# Altium footprint library FK7B0M1-VBT6模块-封装库.PcbLib: 3 footprints
Each footprint in its own frame and in the unit in brackets; x right, y up, seen from the top. Pads: shape width x height; smd on the part's side, far side on the other; paste and mask are expansions set on the pad; w line width, h text height; cw(c..) or ccw(c..) is an arc to the next point about the centre after c.
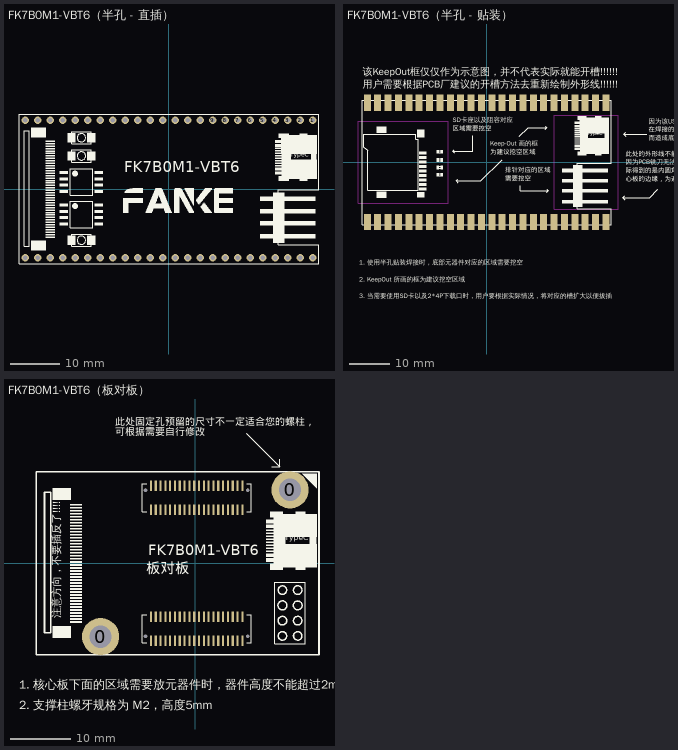
[diagram p0: the footprints below, top view; thin cyan lines are the x and y axes]

## FK7B0M1-VBT6（半孔 - 直插） [mm]
pads (48):
  round 1.5 hole 0.9: 1(29.21,13.97) 2(26.67,13.97) 3(24.13,13.97) 4(21.59,13.97) 5(19.05,13.97) 6(16.51,13.97) 7(13.97,13.97) 8(11.43,13.97) 9(8.89,13.97) 10(6.35,13.97) 11(3.81,13.97) 12(1.27,13.97) 13(-1.27,13.97) 14(-3.81,13.97) 15(-6.35,13.97) 16(-8.89,13.97) 17(-11.43,13.97) 18(-13.97,13.97) 19(-16.51,13.97) 20(-19.05,13.97) 21(-21.59,13.97) 22(-24.13,13.97) 23(-26.67,13.97) 24(-29.21,13.97) 25(29.21,-13.97) 26(26.67,-13.97) 27(24.13,-13.97) 28(21.59,-13.97) 29(19.05,-13.97) 30(16.51,-13.97) 31(13.97,-13.97) 32(11.43,-13.97) 33(8.89,-13.97) 34(6.35,-13.97) 35(3.81,-13.97) 36(1.27,-13.97) 37(-1.27,-13.97) 38(-3.81,-13.97) 39(-6.35,-13.97) 40(-8.89,-13.97) 41(-11.43,-13.97) 42(-13.97,-13.97) 43(-16.51,-13.97) 44(-19.05,-13.97) 45(-21.59,-13.97) 46(-24.13,-13.97) 47(-26.67,-13.97) 48(-29.21,-13.97)
Top Overlay:
  drawing of 913 lines, arcs and shapes, not listed
  text "FK7B0M1-VBT6" at -9.068,2.553 h3.81
  text "TypeC" at 24.676,6.223 h1.52
3D body "FK750M3-VBT6-V1.0排针.step": height 14.36, standoff 0.26, extent -30.48,-15.24 30.48,15.24

## FK7B0M1-VBT6（半孔 - 贴装） [mm]
pads (48):
  rect 1.7x4 smd: 1(29.21,14.605) 2(26.67,14.605) 3(24.13,14.605) 4(21.59,14.605) 5(19.05,14.605) 6(16.51,14.605) 7(13.97,14.605) 8(11.43,14.605) 9(8.89,14.605) 10(6.35,14.605) 11(3.81,14.605) 12(1.27,14.605) 13(-1.27,14.605) 14(-3.81,14.605) 15(-6.35,14.605) 16(-8.89,14.605) 17(-11.43,14.605) 18(-13.97,14.605) 19(-16.51,14.605) 20(-19.05,14.605) 21(-21.59,14.605) 22(-24.13,14.605) 23(-26.67,14.605) 24(-29.21,14.605) 25(29.21,-14.605) 26(26.67,-14.605) 27(24.13,-14.605) 28(21.59,-14.605) 29(19.05,-14.605) 30(16.51,-14.605) 31(13.97,-14.605) 32(11.43,-14.605) 33(8.89,-14.605) 34(6.35,-14.605) 35(3.81,-14.605) 36(1.27,-14.605) 37(-1.27,-14.605) 38(-3.81,-14.605) 39(-6.35,-14.605) 40(-8.89,-14.605) 41(-11.43,-14.605) 42(-13.97,-14.605) 43(-16.51,-14.605) 44(-19.05,-14.605) 45(-21.59,-14.605) 46(-24.13,-14.605) 47(-26.67,-14.605) 48(-29.21,-14.605)
Top Overlay:
  rectangle: 22.809,2.032 30.023,5.956
  rectangle: 22.797,7.087 30.023,10.973
  rectangle: 22.809,5.766 24.803,7.391
  rectangle: 22.263,10.338 24.397,11.328
  rectangle: 22.263,1.651 24.397,2.68
  rectangle: 26.518,1.651 28.143,2.781
  rectangle: 28.804,5.639 29.934,7.391
  rectangle: 21.539,4.585 22.835,4.889
  rectangle: 21.539,5.08 22.835,5.385
  rectangle: 21.539,5.588 22.835,5.893
  rectangle: 21.539,6.083 22.835,6.388
  rectangle: 21.539,6.591 22.835,6.896
  rectangle: 21.539,7.087 22.835,7.391
  rectangle: 21.539,7.582 22.835,7.887
  rectangle: 21.539,8.09 22.835,8.395
  rectangle: 21.539,2.972 22.885,3.594
  rectangle: 21.539,3.772 22.885,4.394
  rectangle: 21.539,8.572 22.885,9.195
  rectangle: 21.539,9.36 22.936,9.995
  rectangle: 26.518,10.342 28.143,11.328
  rectangle: 21.133,-10.954 23.419,-0.667
  rectangle: 18.466,-2.445 29.769,-1.556
  rectangle: 18.466,-4.985 29.769,-4.096
  rectangle: 18.466,-7.398 29.769,-6.509
  rectangle: 18.466,-10.065 29.769,-9.176
  region: -10.668,1.003 -11.303,1.003 -11.303,0.114 -10.668,0.114
  region: -10.668,-2.616 -11.303,-2.616 -11.303,-3.505 -10.668,-3.505
  region: -10.655,-0.826 -11.29,-0.826 -11.29,-1.714 -10.655,-1.714
  region: -10.668,3.048 -11.303,3.048 -11.303,2.159 -10.668,2.159
  region: -24.46,-7.163 -26.949,-7.163 -26.949,-8.738 -24.46,-8.738
  region: -24.46,8.738 -26.949,8.738 -26.949,7.15 -24.46,7.15
  region: -11.684,1.003 -12.319,1.003 -12.319,0.114 -11.684,0.114
  region: -11.684,-2.616 -12.319,-2.616 -12.319,-3.505 -11.684,-3.505
  region: -11.671,-0.826 -12.306,-0.826 -12.306,-1.714 -11.671,-1.714
  region: -11.684,3.048 -12.319,3.048 -12.319,2.159 -11.684,2.159
  region: -15.202,-7.302 -17.005,-7.302 -17.005,-8.611 -15.202,-8.611
  region: -14.694,-5.109 -16.51,-5.109 -16.51,-5.808 -14.694,-5.808
  region: -14.694,-6.209 -16.51,-6.209 -16.51,-6.908 -14.694,-6.908
  region: -14.694,-4.009 -16.51,-4.009 -16.51,-4.708 -14.694,-4.708
  region: -14.694,-1.809 -16.51,-1.809 -16.51,-2.508 -14.694,-2.508
  region: -14.694,0.391 -16.51,0.391 -16.51,-0.308 -14.694,-0.308
  region: -14.694,2.591 -16.51,2.591 -16.51,1.892 -14.694,1.892
  region: -14.694,-0.709 -16.51,-0.709 -16.51,-1.408 -14.694,-1.408
  region: -14.694,-2.909 -16.51,-2.909 -16.51,-3.608 -14.694,-3.608
  region: -15.215,7.988 -17.005,7.988 -17.005,6.096 -15.215,6.096
  region: -14.694,1.491 -16.51,1.491 -16.51,0.792 -14.694,0.792
  lines w0.102: -11.611,-3.284 -11.383,-3.284 ; -11.611,-2.776 -11.383,-2.776 ; -11.611,0.335 -11.383,0.335 ; -11.611,0.843 -11.383,0.843 ; -11.611,2.38 -11.383,2.38 ; -11.611,2.888 -11.383,2.888 ; -11.598,-1.494 -11.37,-1.494 ; -11.598,-0.986 -11.37,-0.986
  lines w0.127: -7.874,2.286 -8.255,2.667 ; -7.874,3.048 -8.255,2.667 ; -3.429,6.477 -3.429,2.667 -8.255,2.667 ; 8.255,-5.715 8.255,-6.985 15.113,-6.985 ; 14.732,-7.366 15.113,-6.985 ; 14.732,-6.604 15.113,-6.985
  lines w0.152: -7.112,-4.953 -7.493,-4.572 ; -7.112,-4.191 -7.493,-4.572 ; 3.81,0.635 -1.397,-4.572 -7.493,-4.572 ; 8.001,6.35 10.16,8.509 14.732,8.509 ; 14.351,8.128 14.732,8.509 ; 14.351,8.89 14.732,8.509 ; 33.598,6.858 34.11,7.37 ; 33.782,-9.144 33.294,-8.656 33.294,-8.616 ; 33.782,-8.128 33.294,-8.616 ; 34.11,6.354 33.606,6.858 39.243,6.858 ; 41.963,-6.608 39.955,-8.616 33.274,-8.616 33.294,-8.616 ; -30.48,-15.24 -30.48,15.24 30.48,15.24 30.48,-0.182 22.216,-0.182 22.216,-11.358 30.48,-11.358 30.48,-15.24 -30.48,-15.24 ; -30.48,-15.24 -30.48,-15.24 ; -30.125,3.647 -29.058,2.91 -29.058,-6.869 -16.688,-6.869 -16.688,-6.412 -16.688,5.069 -16.688,5.704 -17.323,5.704 -17.323,6.847 -17.704,6.847 -30.125,6.847 -30.125,3.647 ; 30.55,6.731 30.558,6.731 30.55,6.731
  text "SD卡座以及阻容对应 / 区域需要挖空" at -8.255,7.239 h2.03
  text "TypeC" at 24.676,6.223 h1.52
  text "排针对应的区域 / 需要挖空" at 4.572,-4.953 h2.03
  text "Keep-Out 画的框 / 为建议挖空区域" at 0.889,1.524 h2.03
  text "该KeepOut框仅仅作为示意图，并不代表实际就能开槽!!!!!! / 用户需要根据PCB厂建议的开槽方法去重新绘制外形线!!!!!!" at -30.353,17.629 h3.05
  text "1. 使用半孔贴装焊接时，底部元器件对应的区域需要挖空 /  / 2. KeepOut 所画的框为建议挖空区域 /  / 3. 当需要使用SD卡以及2*4P下载口时，用户要根据实际情况，将对应的槽扩大以便拔插" at -31.242,-33.742 h2.03
  text "此处的外形线不能贴着核心板的边线， / 因为PCB铣刀无法加工出内直角，实 / 际得到的是内圆角，加上排针临近核 / 心板的边缘，为避免干涉，需要当拉宽" at 34.089,-5.084 h2.03
  text "因为该USB端子的固定引脚是直插的， / 在焊接的时候，可能会因为锡渗入底部 / 而造成底部不平整，所以建议挖空" at 39.677,4.949 h2.03
Keep-Out Layer:
  lines w0.152: -31.496,-10.033 -31.496,10.033 -9.398,10.033 -9.398,-10.033 -31.496,-10.033
  lines w0.203: 16.51,-11.43 16.51,11.557 32.258,11.557 32.258,-11.43 16.51,-11.43
3D body "FK750M3-VBT6-V1.0.step": height 3.86, standoff -2.64, extent -30.48,-15.24 30.48,15.24

## FK7B0M1-VBT6（板对板） [mm]
pads (86):
  round 6.2 hole 3.7: 0(-15.75,-12.2) 0(15.75,12.2)
  round 0.5 hole 0.65: 0(-8.278,-12.141) 0(-8.278,12.142) 0(8.722,-12.141) 0(8.722,12.142)
  rect 0.35x1.8 smd: 1(-7.38,12.89) 2(-7.38,8.89) 3(-6.58,12.89) 4(-6.58,8.89) 5(-5.78,12.89) 6(-5.78,8.89) 7(-4.98,12.89) 8(-4.98,8.89) 9(-4.18,12.89) 10(-4.18,8.89) 11(-3.38,12.89) 12(-3.38,8.89) 13(-2.58,12.89) 14(-2.58,8.89) 15(-1.78,12.89) 16(-1.78,8.89) 17(-0.98,12.89) 18(-0.98,8.89) 19(-0.18,12.89) 20(-0.18,8.89) 21(0.62,12.89) 22(0.62,8.89) 23(1.42,12.89) 24(1.42,8.89) 25(2.22,12.89) 26(2.22,8.89) 27(3.02,12.89) 28(3.02,8.89) 29(3.82,12.89) 30(3.82,8.89) 31(4.62,12.89) 32(4.62,8.89) 33(5.42,12.89) 34(5.42,8.89) 35(6.22,12.89) 36(6.22,8.89) 37(7.02,12.89) 38(7.02,8.89) 39(7.82,12.89) 40(7.82,8.89) 41(7.82,-12.89) 42(7.82,-8.89) 43(7.02,-12.89) 44(7.02,-8.89) 45(6.22,-12.89) 46(6.22,-8.89) 47(5.42,-12.89) 48(5.42,-8.89) 49(4.62,-12.89) 50(4.62,-8.89) 51(3.82,-12.89) 52(3.82,-8.89) 53(3.02,-12.89) 54(3.02,-8.89) 55(2.22,-12.89) 56(2.22,-8.89) 57(1.42,-12.89) 58(1.42,-8.89) 59(0.62,-12.89) 60(0.62,-8.89) 61(-0.18,-12.89) 62(-0.18,-8.89) 63(-0.98,-12.89) 64(-0.98,-8.89) 65(-1.78,-12.89) 66(-1.78,-8.89) 67(-2.58,-12.89) 68(-2.58,-8.89) 69(-3.38,-12.89) 70(-3.38,-8.89) 71(-4.18,-12.89) 72(-4.18,-8.89) 73(-4.98,-12.89) 74(-4.98,-8.89) 75(-5.78,-12.89) 76(-5.78,-8.89) 77(-6.58,-12.89) 78(-6.58,-8.89) 79(-7.38,-12.89) 80(-7.38,-8.89)
Top Overlay:
  circle w0.254: c14.48,-4.464 r0.705
  circle w0.254: c17.02,-4.464 r0.717
  circle w0.254: c14.48,-7.004 r0.748
  circle w0.254: c17.02,-7.004 r0.73
  circle w0.254: c14.48,-9.544 r0.718
  circle w0.254: c17.02,-9.544 r0.718
  circle w0.254: c14.48,-12.084 r0.705
  circle w0.254: c17.02,-12.084 r0.702
  rectangle: 11.708,6.607 13.105,7.242
  rectangle: 11.708,5.82 13.054,6.442
  rectangle: 11.708,1.019 13.054,1.641
  rectangle: 11.708,0.219 13.054,0.841
  rectangle: 11.708,5.337 13.003,5.642
  rectangle: 11.708,4.829 13.003,5.134
  rectangle: 11.708,4.334 13.003,4.638
  rectangle: 11.708,3.838 13.003,4.143
  rectangle: 11.708,3.33 13.003,3.635
  rectangle: 11.708,2.835 13.003,3.14
  rectangle: 11.708,2.327 13.003,2.632
  rectangle: 11.708,1.832 13.003,2.137
  rectangle: 12.965,4.334 20.191,8.22
  rectangle: 12.978,-0.721 20.191,3.203
  rectangle: 12.978,3.013 14.972,4.638
  rectangle: 18.972,2.886 20.103,4.638
  rectangle: 16.686,-1.102 18.312,0.028
  rectangle: 12.432,-1.102 14.565,-0.073
  rectangle: 16.686,7.589 18.312,8.575
  rectangle: 12.432,7.585 14.565,8.575
  region: -20.708,12.484 -23.705,12.484 -23.705,10.478 -20.708,10.478
  region: -20.708,-10.452 -23.718,-10.452 -23.718,-12.459 -20.708,-12.459
  region: -18.801,9.886 -20.808,9.886 -20.808,9.581 -18.801,9.581
  region: -18.801,9.386 -20.808,9.386 -20.808,9.081 -18.801,9.081
  region: -18.801,8.886 -20.808,8.886 -20.808,8.581 -18.801,8.581
  region: -18.801,8.386 -20.808,8.386 -20.808,8.081 -18.801,8.081
  region: -18.801,7.886 -20.808,7.886 -20.808,7.581 -18.801,7.581
  region: -18.801,7.386 -20.808,7.386 -20.808,7.081 -18.801,7.081
  region: -18.801,6.886 -20.808,6.886 -20.808,6.581 -18.801,6.581
  region: -18.801,6.386 -20.808,6.386 -20.808,6.081 -18.801,6.081
  region: -18.801,5.886 -20.808,5.886 -20.808,5.581 -18.801,5.581
  region: -18.801,5.386 -20.808,5.386 -20.808,5.081 -18.801,5.081
  region: -18.801,4.886 -20.808,4.886 -20.808,4.581 -18.801,4.581
  region: -18.801,4.386 -20.808,4.386 -20.808,4.081 -18.801,4.081
  region: -18.801,3.886 -20.808,3.886 -20.808,3.581 -18.801,3.581
  region: -18.801,3.386 -20.808,3.386 -20.808,3.081 -18.801,3.081
  region: -18.801,2.886 -20.808,2.886 -20.808,2.581 -18.801,2.581
  region: -18.801,2.386 -20.808,2.386 -20.808,2.081 -18.801,2.081
  region: -18.801,1.886 -20.808,1.886 -20.808,1.581 -18.801,1.581
  region: -18.801,1.386 -20.808,1.386 -20.808,1.081 -18.801,1.081
  region: -18.801,0.886 -20.808,0.886 -20.808,0.581 -18.801,0.581
  region: -18.801,0.386 -20.808,0.386 -20.808,0.081 -18.801,0.081
  region: -18.801,-0.114 -20.808,-0.114 -20.808,-0.419 -18.801,-0.419
  region: -18.801,-0.614 -20.808,-0.614 -20.808,-0.919 -18.801,-0.919
  region: -18.801,-1.114 -20.808,-1.114 -20.808,-1.419 -18.801,-1.419
  region: -18.801,-1.614 -20.808,-1.614 -20.808,-1.919 -18.801,-1.919
  region: -18.801,-2.114 -20.808,-2.114 -20.808,-2.419 -18.801,-2.419
  region: -18.801,-2.614 -20.808,-2.614 -20.808,-2.919 -18.801,-2.919
  region: -18.801,-3.114 -20.808,-3.114 -20.808,-3.419 -18.801,-3.419
  region: -18.801,-3.614 -20.808,-3.614 -20.808,-3.919 -18.801,-3.919
  region: -18.801,-4.114 -20.808,-4.114 -20.808,-4.419 -18.801,-4.419
  region: -18.801,-4.614 -20.808,-4.614 -20.808,-4.919 -18.801,-4.919
  region: -18.801,-5.114 -20.808,-5.114 -20.808,-5.419 -18.801,-5.419
  region: -18.801,-5.614 -20.808,-5.614 -20.808,-5.919 -18.801,-5.919
  region: -18.801,-6.114 -20.808,-6.114 -20.808,-6.419 -18.801,-6.419
  region: -18.801,-6.614 -20.808,-6.614 -20.808,-6.919 -18.801,-6.919
  region: -18.801,-7.114 -20.808,-7.114 -20.808,-7.419 -18.801,-7.419
  region: -18.801,-7.614 -20.808,-7.614 -20.808,-7.919 -18.801,-7.919
  region: -18.801,-8.114 -20.808,-8.114 -20.808,-8.419 -18.801,-8.419
  region: -18.801,-8.614 -20.808,-8.614 -20.808,-8.919 -18.801,-8.919
  region: -18.801,-9.114 -20.808,-9.114 -20.808,-9.419 -18.801,-9.419
  region: -18.801,-9.614 -20.808,-9.614 -20.808,-9.919 -18.801,-9.919
  region: 20.2,14.917 20.2,12.465 17.748,14.917
  lines w0.152: 8.483,21.579 14.008,16.055 ; 12.738,16.055 14.008,16.055 ; 14.008,17.325 14.008,16.055
  lines w0.2: 13.21,-13.354 13.21,-3.194 18.29,-3.194 18.29,-13.354 13.21,-13.354
  lines w0.203: -8.07,-13.192 -8.832,-13.192 -8.832,-8.588 -8.07,-8.588 ; -8.07,8.588 -8.832,8.588 -8.832,13.192 -8.07,13.192 ; 8.51,-13.192 9.272,-13.192 9.272,-8.588 8.51,-8.588 ; 8.51,8.588 9.272,8.588 9.272,13.192 8.51,13.192 ; 14.742,-0.588 16.52,-0.588 ; 14.742,8.048 16.52,8.048 ; 18.552,-0.595 20.08,-0.595 20.08,8.055 18.552,8.055
  lines w0.254: -26.43,-15.24 20.56,-15.24 20.56,15.24 -25.871,15.24 -26.43,15.24 -26.43,-15.24 ; -25.078,-11.585 -25.078,11.815 -24.062,11.815 -24.062,-11.585 -25.078,-11.585 ; -25.072,-11.572 -25.072,11.828 -24.056,11.828 -24.056,-11.572 -25.072,-11.572
  text "可根据需要自行修改" at -13.321,20.872 h2.03
  text "此处固定孔预留的尺寸不一定适合您的螺柱，" at -13.323,22.522 h2.03
  text "1. 核心板下面的区域需要放元器件时，器件高度不能超过2mm" at -29.269,-21.354 h2.54
  text "2. 支撑柱螺牙规格为 M2，高度5mm" at -29.312,-24.805 h2.54
  text "板对板" at -8.128,-2.235 h3.05
  text "FK7B0M1-VBT6" at -7.823,0.711 h3.05
  text "TypeC" at 14.845,3.47 h1.52
  text "注意方向，不要插反了!!!!" at -22.045,-9.129 h2.16
3D body "FK7B0M1-VBT6-板对板-V1.0.step": height 8.36, standoff 1.2, extent -26.492,-15.189 20.498,15.291